# Altium schematic symbol library CAP-SM-0402-NC.Schlib: 1 symbol
Pins are listed as number, name and electrical type; pins without a type are passive.

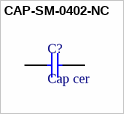
[diagram p0: symbol CAP-SM-0402-NC]

## CAP-SM-0402-NC
designator C?, comment Cap cer
CAP SM 0402 N/C
pins: 1, 2